# Altium schematic symbol library TLV62569.SchLib: 1 symbol
Pins are listed as number, name and electrical type; pins without a type are passive.

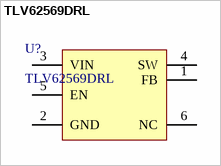
[diagram p0: symbol TLV62569DRL]

## TLV62569DRL
designator U?
2.5V-5.5V input, 2-A high efficiency step-down buck converter in SOT23 and SOT563 package
footprint SOT50P160X60-6N
pins: 1 FB, 2 GND (power), 3 VIN (power), 4 SW (power), 5 EN (power), 6 NC (power)